# Altium footprint library Galileo_Control_Board.PcbLib: 3 footprints
Each footprint in its own frame and in the unit in brackets; x right, y up, seen from the top. Pads: shape width x height; smd on the part's side, far side on the other; paste and mask are expansions set on the pad; w line width, h text height; cw(c..) or ccw(c..) is an arc to the next point about the centre after c.
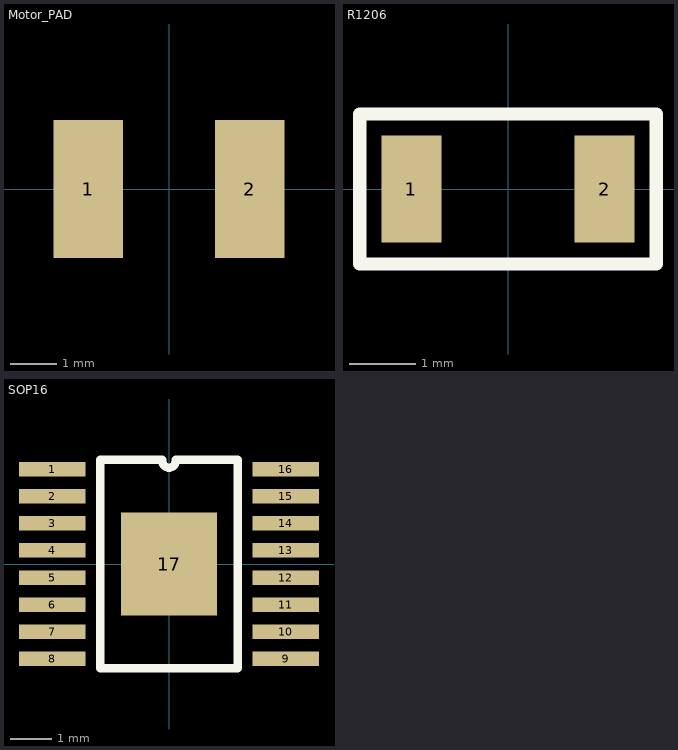
[diagram p0: the footprints below, top view; thin cyan lines are the x and y axes]

## Motor_PAD [mm]
pads (2):
  rect 1.5x3 smd: 1(-1.75,0) 2(1.75,0)

## R1206 [mm]
pads (2):
  rect 0.9x1.6 smd: 1(-1.45,0) 2(1.45,0)
Top Overlay:
  lines w0.2: -2.225,-1.125 2.225,-1.125 2.225,1.125 -2.225,1.125 -2.225,-1.125
3D body: height 0.64, standoff 0, extent -1.1,-0.8 1.1,0.8
3D body: height 0.64, standoff 0, extent -1.6,-0.8 -1.1,0.8
3D body: height 0.64, standoff 0, extent 1.1,-0.8 1.6,0.8

## SOP16 [mm]
pads (17):
  rect 1.6x0.35 smd mask+0.075: 1(-2.8,2.275) 2(-2.8,1.625) 3(-2.8,0.975) 4(-2.8,0.325) 5(-2.8,-0.325) 6(-2.8,-0.975) 7(-2.8,-1.625) 8(-2.8,-2.275) 9(2.8,-2.275) 10(2.8,-1.625) 11(2.8,-0.975) 12(2.8,-0.325) 13(2.8,0.325) 14(2.8,0.975) 15(2.8,1.625) 16(2.8,2.275)
  rect 2.31x2.46 smd: 17(0,0)
Top Overlay:
  lines w0.2: -0.162,2.475 ccw(c0,2.475) 0.162,2.475 ; -0.162,2.5 -1.65,2.5 -1.65,-2.5 1.65,-2.5 1.65,2.5 0.162,2.5